# EAGLE library part AS-ITM-00404 (library tinycircuits)
FULLY INTEGRATED GNSS SIP
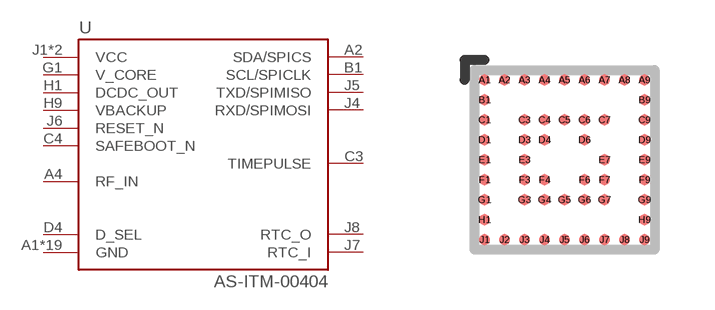
[diagram p165: symbol with the pads of ZOE-M8; footprint ZOE-M8]

Designator prefix U

## AS-ITM-00404 (PARTNO: AS-ITM-00404; VALUE: ZOE-M8B)  [ZOE-M8]
A1  GND
A2  SDA/SPICS
A3  GND
A4  RF_IN
A5  GND
A7  GND
A8  GND
A9  GND
B1  SCL/SPICLK
B9  GND
C3  TIMEPULSE
C4  SAFEBOOT_N
C7  GND
C9  GND
D1  GND
D4  D_SEL
D6  GND
D9  GND
E7  GND
F7  GND
G1  V_CORE
G3  GND
G6  GND
G7  GND
H1  DCDC_OUT
H9  VBACKUP
J1  VCC
J2  VCC
J3  GND
J4  RXD/SPIMOSI
J5  TXD/SPIMISO
J6  RESET_N
J7  RTC_I
J8  RTC_O
J9  GND

## Footprint ZOE-M8 (pad centres in mm)
smd 0.27 x 0.27: A1 -2,2; A2 -1.5,2; A3 -1,2; A4 -0.5,2; A5 0,2; A6 0.5,2; A7 1,2; A8 1.5,2; A9 2,2; B1 -2,1.5; B9 2,1.5; C1 -2,1; C3 -1,1; C4 -0.5,1; C5 0,1; C6 0.5,1; C7 1,1; C9 2,1; D1 -2,0.5; D3 -1,0.5; D4 -0.5,0.5; D6 0.5,0.5; D9 2,0.5; E1 -2,0; E3 -1,0; E7 1,0; E9 2,0; F1 -2,-0.5; F3 -1,-0.5; F4 -0.5,-0.5; F6 0.5,-0.5; F7 1,-0.5; F9 2,-0.5; G1 -2,-1; G3 -1,-1; G4 -0.5,-1; G5 0,-1; G6 0.5,-1; G7 1,-1; G9 2,-1; H1 -2,-1.5; H9 2,-1.5; J1 -2,-2; J2 -1.5,-2; J3 -1,-2; J4 -0.5,-2; J5 0,-2; J6 0.5,-2; J7 1,-2; J8 1.5,-2; J9 2,-2